# Altium footprint library mylib.PcbLib: 122 footprints (part 7 of 8)
Each footprint in its own frame and in the unit in brackets; x right, y up, seen from the top. Pads: shape width x height; smd on the part's side, far side on the other; paste and mask are expansions set on the pad; w line width, h text height; cw(c..) or ccw(c..) is an arc to the next point about the centre after c.
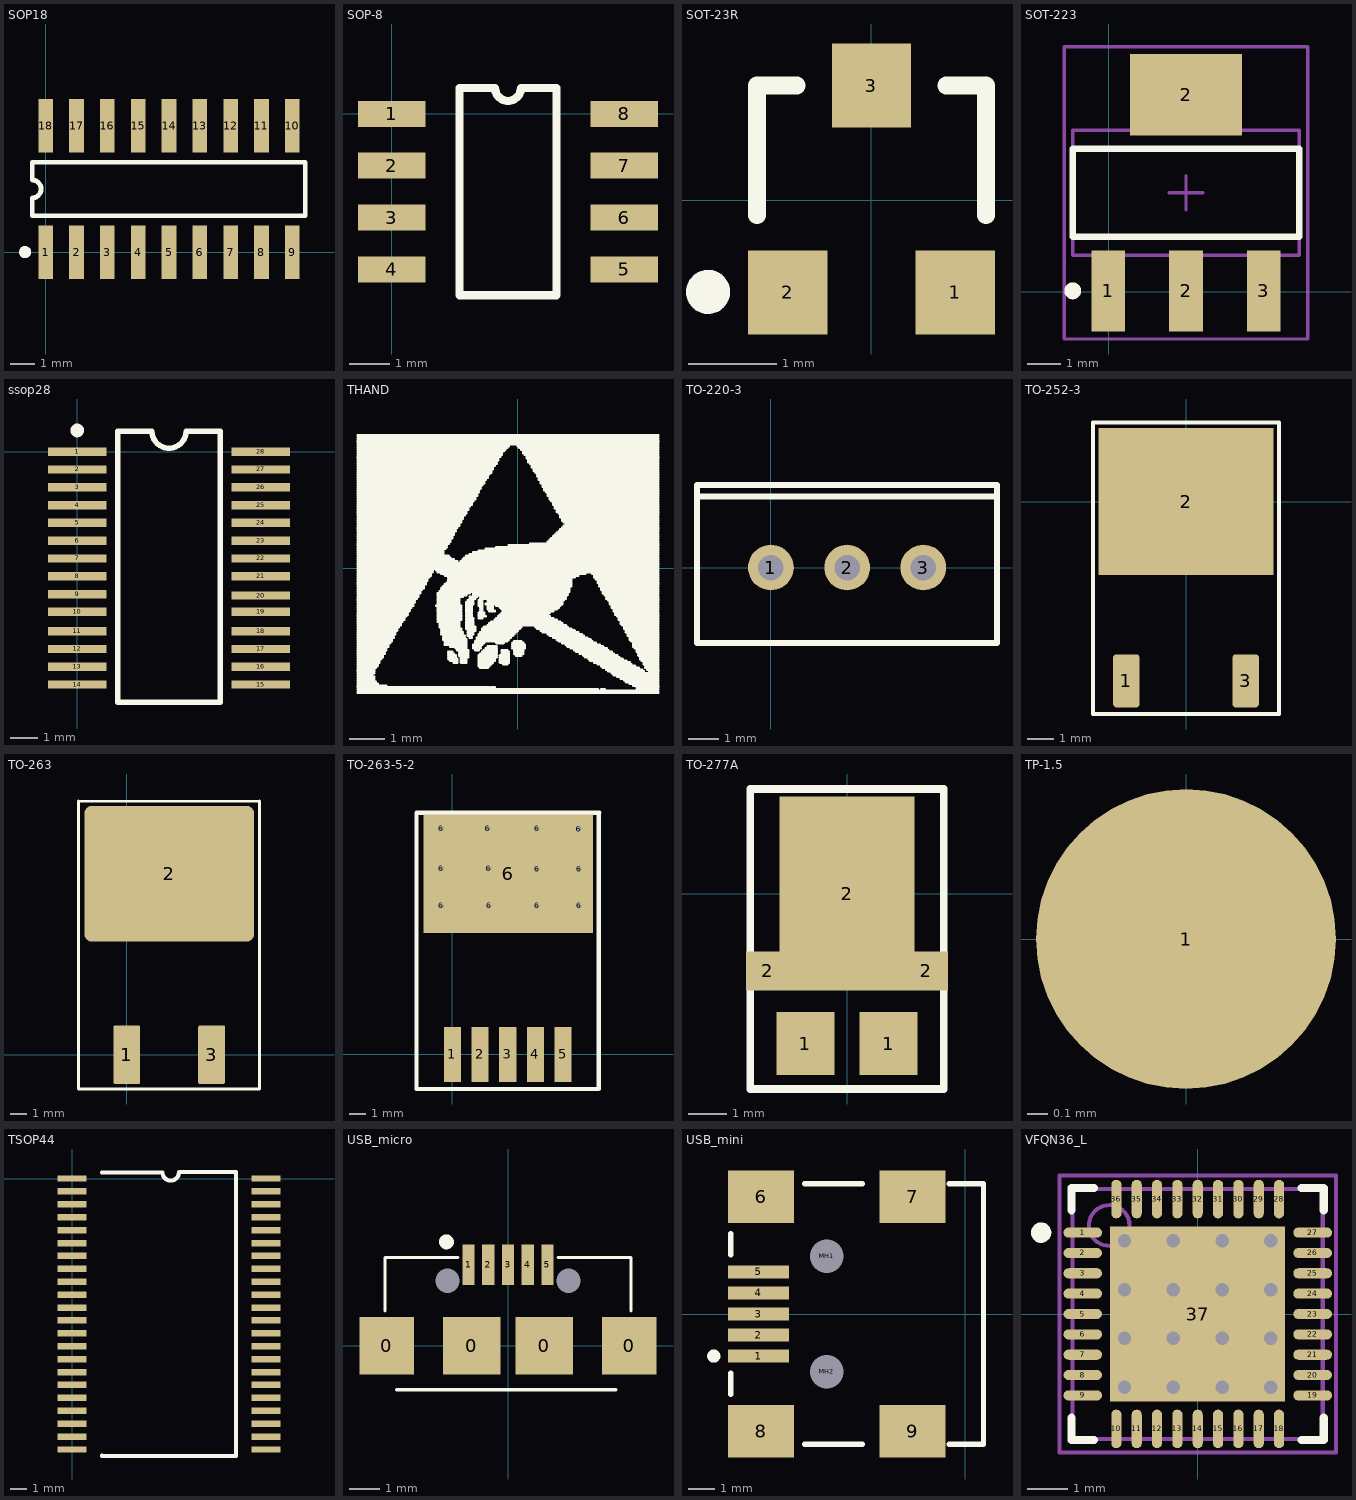
[diagram p6: the footprints below, top view; thin cyan lines are the x and y axes]

## SOP18 [mm]
pads (18):
  rect 0.6x2.2 smd: 1(0,0) 2(1.27,0) 3(2.54,0) 4(3.81,0) 5(5.08,0) 6(6.35,0) 7(7.62,0) 8(8.89,0) 9(10.16,0) 10(10.16,5.2) 11(8.89,5.2) 12(7.62,5.2) 13(6.35,5.2) 14(5.08,5.2) 15(3.81,5.2) 16(2.54,5.2) 17(1.27,5.2) 18(0,5.2)
Top Overlay:
  circle w0.25: c-0.85,0 r0.125
  lines w0.2: -0.555,1.5 10.693,1.5 10.693,3.7 -0.555,3.7 -0.555,2.967 cw(c-0.555,2.6) -0.555,2.233 -0.555,1.5

## SOP-8 [mil]
pads (8):
  rect 65x25 smd: 1(0,0) 2(0,-50) 3(0,-100) 4(0,-150) 5(224.41,-150) 6(224.41,-100) 7(224.41,-50) 8(224.41,0)
Top Overlay:
  lines w7.87: 65.37,-175 65.37,25 99.7,25 ccw(c112.2,25) 124.7,25 159.04,25 159.04,-175 65.37,-175

## SOT-23R [mm]
pads (3):
  rect 0.9x0.95 smd: 1(0.95,-1.048) 2(-0.95,-1.048) 3(0,1.302)
Top Overlay:
  circle w0.25: c-1.856,-1.041 r0.125
  lines w0.2: -1.3,-0.173 -1.3,1.302 -0.85,1.302 ; 0.85,1.302 1.3,1.302 1.3,-0.173

## SOT-223 [mm]
pads (4):
  rect 1x2.4 smd: 1(-0.014,0.021) 2(2.286,0.021) 3(4.586,0.021)
  rect 3.3x2.4 smd: 2(2.286,5.821)
Top Overlay:
  circle w0.25: c-1.064,0.021 r0.125
  lines w0.2: -1.064,1.621 -1.064,4.221 5.636,4.221 5.636,1.621 -1.064,1.621
Mechanical 13:
  lines w0.1: -1.064,1.071 -1.064,4.771 5.636,4.771 5.636,1.071 -1.064,1.071
Mechanical 15:
  lines w0.1: 1.786,2.921 2.786,2.921 ; 2.286,2.421 2.286,3.421 ; -1.314,-1.404 -1.314,7.246 5.886,7.246 5.886,-1.404 -1.314,-1.404

## ssop28 [mm]
pads (28):
  rect 2.15x0.305 smd: 1(0,0) 2(0,-0.65) 3(0,-1.3) 4(0,-1.95) 5(0,-2.6) 6(0,-3.25) 7(0,-3.9) 8(0,-4.55) 9(0,-5.2) 10(0,-5.85) 11(0,-6.552) 12(0,-7.202) 13(0,-7.852) 14(0,-8.502) 15(6.7,-8.502) 16(6.7,-7.852) 17(6.7,-7.202) 18(6.7,-6.552) 19(6.7,-5.85) 20(6.7,-5.252) 21(6.7,-4.55) 22(6.7,-3.9) 23(6.7,-3.25) 24(6.7,-2.6) 25(6.7,-1.95) 26(6.7,-1.3) 27(6.7,-0.65) 28(6.7,0)
Top Overlay:
  circle w0.25: c0,0.775 r0.125
  lines w0.2: 1.475,-9.144 5.225,-9.144 5.225,0.75 3.975,0.75 cw(c3.35,0.75) 2.725,0.75 1.475,0.75 1.475,-9.144

## THAND [mm]
Top Overlay:
  drawing of 472 lines, arcs and shapes, not listed

## TO-220-3 [mil]
pads (3):
  round 60 hole 33.46: 1(0,0) 2(100,0) 3(200,0)
Top Overlay:
  lines w7.87: -97,93 296.7,93 ; -97,-99 90.58,-99 296.7,-99 296.7,0 296.7,108.27 99.85,108.27 -97,108.27 -97,0 -97,-99

## TO-252-3 [mil]
pads (3):
  rrect25% 40x80 smd: 1(-89.76,-270) 3(89.76,-270)
  rect 263.78x221 smd: 2(0,0)
Top Overlay:
  lines w6: -140,-320 140,-320 140,119 -140,119 -140,-320
Mechanical 1:
  lines w4: -10,-90 10,-90 ; 0,-100 0,-80
3D body: height 90.55, standoff 0, extent -130,-287.95 129.05,93.94

## TO-263 [mm]
pads (3):
  rrect10% 1.6x3.5 smd: 1(0,0) 3(5.08,0)
  rrect10% 10.16x8.128 smd: 2(2.54,10.839)
Top Overlay:
  lines w0.152: -2.896,15.189 7.95,15.189
  lines w0.203: -2.896,15.189 -2.896,-2.057 7.95,-2.057 7.95,15.189
3D body: height 5.05, standoff 0.03, extent -2.565,-0.965 7.595,14.298

## TO-263-5-2 [mil]
pads (18):
  rect 41.34x133.86 smd: 1(0,0) 2(66.93,0) 3(133.86,0) 4(200.79,0) 5(267.72,0)
  round 24 hole 12: 6(-27,360) 6(-27,450) 6(-27,547) 6(86,547) 6(88,450) 6(89,360) 6(205,360) 6(205,449) 6(205,547) 6(306,546) 6(307,360) 6(307,449)
  rect 411.42x287.4 smd: 6(135.17,437.37)
Top Overlay:
  lines w10: -87.44,585.63 -87.44,-83.66 354.37,-83.66 354.37,585.63 ; -85.44,585.63 356.37,585.63
3D body: height 179.53, standoff 0, extent -65,-14 335,537.77

## TO-277A [mil]
pads (5):
  rect 60x65 smd: 1(-43,-155) 1(43,-155)
  rect 45x40 smd: 2(-82,-80) 2(82,-80)
  rect 140x200 smd: 2(0,0)
Top Overlay:
  lines w8: -100,-202 -100,108 100,108 100,-202 -100,-202
3D body: height 49.24, standoff 1.96, extent -93.5,-177 93.5,84.81

## TP-1.5 [mm]
pads (1):
  round 1.5 smd: 1(0,0)

## TSOP44 [mm]
pads (44):
  rect 1.8x0.4 smd: 1(-0.009,0.001) 2(-0.009,-0.799) 3(-0.009,-1.599) 4(-0.009,-2.399) 5(-0.009,-3.199) 6(-0.009,-3.999) 7(-0.009,-4.799) 8(-0.009,-5.599) 9(-0.009,-6.399) 10(-0.009,-7.199) 11(-0.009,-7.999) 12(-0.009,-8.799) 13(-0.009,-9.599) 14(-0.009,-10.399) 15(-0.009,-11.199) 16(-0.009,-11.999) 17(-0.009,-12.799) 18(-0.009,-13.599) 19(-0.009,-14.399) 20(-0.009,-15.199) 21(-0.009,-15.999) 22(-0.009,-16.799) 23(11.991,-16.799) 24(11.991,-15.999) 25(11.991,-15.199) 26(11.991,-14.399) 27(11.991,-13.599) 28(11.991,-12.799) 29(11.991,-11.999) 30(11.991,-11.199) 31(11.991,-10.399) 32(11.991,-9.599) 33(11.991,-8.799) 34(11.991,-7.999) 35(11.991,-7.199) 36(11.991,-6.399) 37(11.991,-5.599) 38(11.991,-4.799) 39(11.991,-3.999) 40(11.991,-3.199) 41(11.991,-2.399) 42(11.991,-1.599) 43(11.991,-0.799) 44(11.991,0.001)
Top Overlay:
  lines w0.2: 1.826,-17.199 10.156,-17.199
  lines w0.254: 1.846,-17.18 1.826,-17.199 10.156,-17.199 10.156,0.401 6.624,0.401 ; 1.846,0.381 5.588,0.381 ccw(c6.096,0.381) 6.604,0.381

## USB_micro [mm]
pads (11):
  rect 1.8x1.9 smd: 0(-4,0) 0(4,0)
  round 0 hole 0.8: 0(-2,2.15) 0(2,2.15)
  rect 1.9x1.9 smd: 0(-1.2,0) 0(1.2,0)
  rect 0.4x1.35 smd: 1(-1.3,2.675) 2(-0.65,2.675) 3(0,2.675) 4(0.65,2.675) 5(1.3,2.675)
Top Overlay:
  circle w0.25: c-2.03,3.429 r0.12
  lines w0.1: -4.064,1.143 -4.064,2.921 -1.651,2.921 ; -3.683,-1.45 3.556,-1.45 ; 1.651,2.921 4.064,2.921 4.064,1.143

## USB_mini [mm]
pads (11):
  rect 2.3x0.5 smd: 1(-7.85,-1.6) 2(-7.85,-0.8) 3(-7.85,0) 4(-7.85,0.8) 5(-7.85,1.6)
  rect 2.5x2 smd: 6(-7.75,4.45) 7(-1.996,4.45) 8(-7.75,-4.45) 9(-1.996,-4.45)
  round 0.6 hole 1.27 unplated: MH1(-5.25,2.2) MH2(-5.25,-2.2)
Top Overlay:
  circle w0.25: c-9.55,-1.6 r0.125
  lines w0.2: -8.9,-3.05 -8.9,-2.25 ; -8.9,2.25 -8.9,3.05 ; -6.1,-4.95 -3.9,-4.95 ; -6.1,4.95 -3.9,4.95 ; -0.6,-4.95 0.7,-4.95 0.7,4.95 -0.6,4.95

## VFQN36_L [mm] "QFN, 36-Leads, Body 6x6mm, Pitch 0.5mm, IPC High Density"
height 1
pads (37):
  oval 0.95x0.25 smd: 1(-2.825,2) 2(-2.825,1.5) 3(-2.825,1) 4(-2.825,0.5) 5(-2.825,0) 6(-2.825,-0.5) 7(-2.825,-1) 8(-2.825,-1.5) 9(-2.825,-2) 19(2.825,-2) 20(2.825,-1.5) 21(2.825,-1) 22(2.825,-0.5) 23(2.825,0) 24(2.825,0.5) 25(2.825,1) 26(2.825,1.5) 27(2.825,2)
  oval 0.25x0.95 smd: 10(-2,-2.825) 11(-1.5,-2.825) 12(-1,-2.825) 13(-0.5,-2.825) 14(0,-2.825) 15(0.5,-2.825) 16(1,-2.825) 17(1.5,-2.825) 18(2,-2.825) 28(2,2.825) 29(1.5,2.825) 30(1,2.825) 31(0.5,2.825) 32(0,2.825) 33(-0.5,2.825) 34(-1,2.825) 35(-1.5,2.825) 36(-2,2.825)
  rect 4.3x4.3 smd: 37(0,0)
via -1.8,1.8 diameter 0.66 hole 0.33
via -0.6,1.8 diameter 0.66 hole 0.33
via 0.6,1.8 diameter 0.66 hole 0.33
via 1.8,1.8 diameter 0.66 hole 0.33
via -1.8,0.6 diameter 0.66 hole 0.33
via -0.6,0.6 diameter 0.66 hole 0.33
via 0.6,0.6 diameter 0.66 hole 0.33
via 1.8,0.6 diameter 0.66 hole 0.33
via -1.8,-0.6 diameter 0.66 hole 0.33
via -0.6,-0.6 diameter 0.66 hole 0.33
via 0.6,-0.6 diameter 0.66 hole 0.33
via 1.8,-0.6 diameter 0.66 hole 0.33
via -1.8,-1.8 diameter 0.66 hole 0.33
via -0.6,-1.8 diameter 0.66 hole 0.33
via 0.6,-1.8 diameter 0.66 hole 0.33
via 1.8,-1.8 diameter 0.66 hole 0.33
Top Overlay:
  circle w0.25: c-3.85,2 r0.125
  lines w0.2: -3.1,-2.55 -3.1,-3.1 -2.55,-3.1 ; -3.1,2.55 -3.1,3.1 -2.55,3.1 ; 2.55,-3.1 3.1,-3.1 3.1,-2.55 ; 2.55,3.1 3.1,3.1 3.1,2.55
Mechanical 13:
  circle w0.1: c-2.175,2.175 r0.5
  lines w0.1: -3.075,-3.075 -3.075,3.075 3.075,3.075 3.075,-3.075 -3.075,-3.075
Mechanical 15:
  lines w0.1: -0.5,0 0.5,0 ; 0,-0.5 0,0.5 ; -3.4,-3.4 -3.4,3.4 3.4,3.4 3.4,-3.4 -3.4,-3.4
3D body: height 1, standoff 0, extent -3.075,-3.075 3.075,3.075